# Altium schematic symbol library Schlib1.SchLib: 3 symbols
Pins are listed as number, name and electrical type; pins without a type are passive.

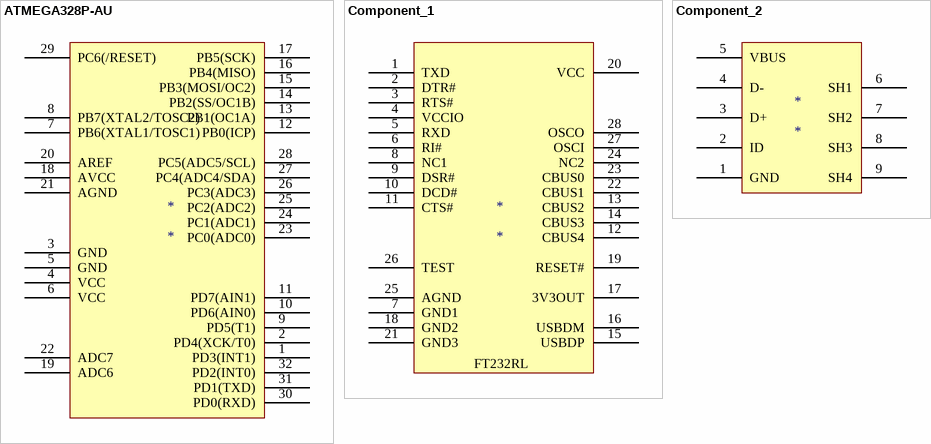
[diagram p0: symbols ATMEGA328P-AU to Component_2]

## ATMEGA328P-AU
designator *
footprint SOIC127P980X95_HS-33N (SOIC, 32-Leads, Body 19.50x7.30mm, Pitch 1.27mm, Thermal Pad 20.00x7.00mm, IPC Medium Density)
pins: 1 PD3(INT1), 2 PD4(XCK/T0), 3 GND, 4 VCC (power), 5 GND, 6 VCC (power), 7 PB6(XTAL1/TOSC1), 8 PB7(XTAL2/TOSC2), 9 PD5(T1), 10 PD6(AIN0), 11 PD7(AIN1), 12 PB0(ICP), 13 PB1(OC1A), 14 PB2(SS/OC1B), 15 PB3(MOSI/OC2), 16 PB4(MISO), 17 PB5(SCK), 18 AVCC, 19 ADC6, 20 AREF, 21 AGND, 22 ADC7, 23 PC0(ADC0), 24 PC1(ADC1), 25 PC2(ADC2), 26 PC3(ADC3), 27 PC4(ADC4/SDA), 28 PC5(ADC5/SCL), 29 PC6(/RESET), 30 PD0(RXD), 31 PD1(TXD), 32 PD2(INT0)

## Component_1
designator *
footprint SOIC127P980X95_HS-29N (SOIC, 28-Leads, Body 17.00x7.30mm, Pitch 1.27mm, Thermal Pad 17.00x7.00mm, IPC Medium Density)
pins: 1 TXD, 2 DTR#, 3 RTS#, 4 VCCIO, 5 RXD, 6 RI#, 7 GND1, 8 NC1, 9 DSR#, 10 DCD#, 11 CTS#, 12 CBUS4, 13 CBUS2, 14 CBUS3, 15 USBDP, 16 USBDM, 17 3V3OUT, 18 GND2, 19 RESET#, 20 VCC, 21 GND3, 22 CBUS1, 23 CBUS0, 24 NC2, 25 AGND, 26 TEST, 27 OSCI, 28 OSCO
text: FT232RL

## Component_2
designator *
footprint SOIC127P980X95_HS-10N (SOIC, 9-Leads, Body 7.00x7.30mm, Pitch 1.27mm, Thermal Pad 6.00x6.00mm, IPC Medium Density)
pins: 1 GND, 2 ID, 3 D+, 4 D-, 5 VBUS, 6 SH1, 7 SH2, 8 SH3, 9 SH4